# EAGLE library part 24FC1025 (library satellite)
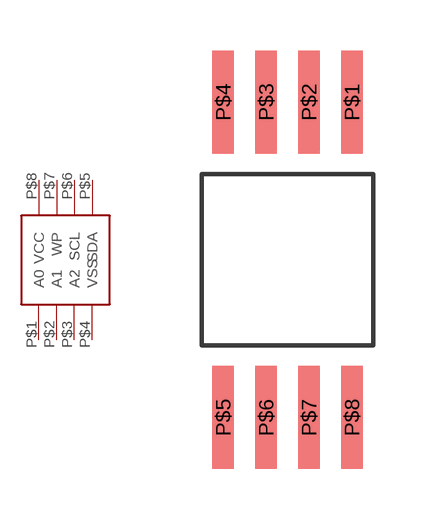
[diagram p8: symbol with the pads of 24FC1025; footprint 24FC1025]

Designator prefix -

## 24FC1025  [24FC1025]
P$1  A0
P$2  A1
P$3  A2
P$4  VSS
P$5  SDA
P$6  SCL
P$7  WP
P$8  VCC

## Footprint 24FC1025 (pad centres in mm)
smd 0.635 x 3.048: P$1 1.905,4.674; P$2 0.635,4.674; P$3 -0.635,4.674; P$4 -1.905,4.674; P$5 -1.905,-4.674; P$6 -0.635,-4.674; P$7 0.635,-4.674; P$8 1.905,-4.674